# EAGLE library part SIMBRD42 (library matt con-amp)
AMP connector
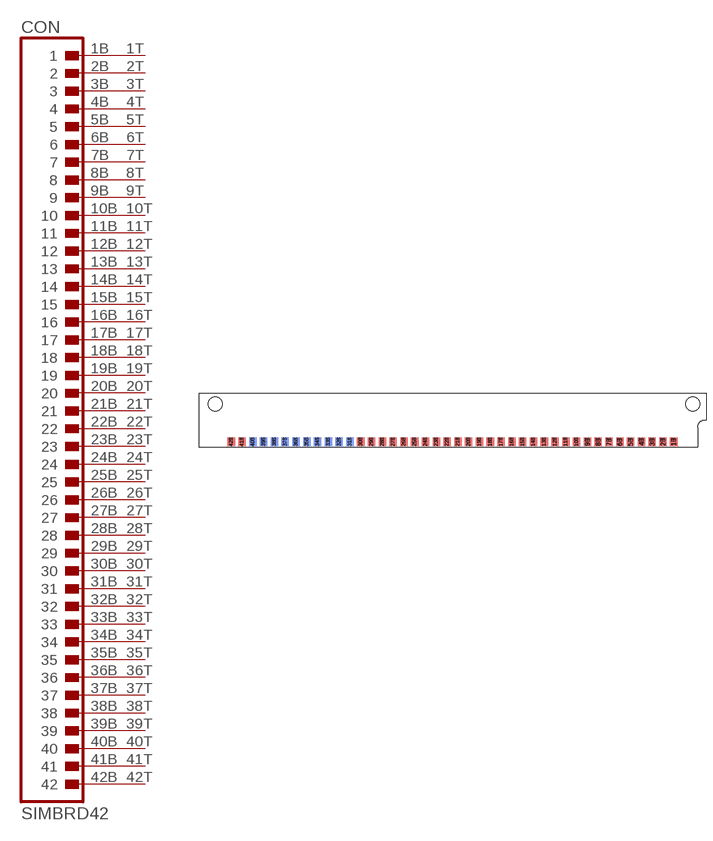
[diagram p3: symbol with the pads of SIMBRD42; footprint SIMBRD42]

Designator prefix CON

## SIMBRD42  [SIMBRD42]
1B  1  pas
1T  A1  pas
2B  2  pas
2T  A2  pas
3B  3  pas
3T  A3  pas
4B  4  pas
4T  A4  pas
5B  5  pas
5T  A5  pas
6B  6  pas
6T  A6  pas
7B  7  pas
7T  A7  pas
8B  8  pas
8T  A8  pas
9B  9  pas
9T  A9  pas
10B  10  pas
10T  A10  pas
11B  11  pas
11T  A11  pas
12B  12  pas
12T  A12  pas
13B  13  pas
13T  A13  pas
14B  14  pas
14T  A14  pas
15B  15  pas
15T  A15  pas
16B  16  pas
16T  A16  pas
17B  17  pas
17T  A17  pas
18B  18  pas
18T  A18  pas
19B  19  pas
19T  A19  pas
20B  20  pas
20T  A20  pas
21B  21  pas
21T  A21  pas
22B  22  pas
22T  A22  pas
23B  23  pas
23T  A23  pas
24B  24  pas
24T  A24  pas
25B  25  pas
25T  A25  pas
26B  26  pas
26T  A26  pas
27B  27  pas
27T  A27  pas
28B  28  pas
28T  A28  pas
29B  29  pas
29T  A29  pas
30B  30  pas
30T  A30  pas
31B  31  pas
31T  A31  pas
32B  32  pas
32T  A32  pas
33B  33  pas
33T  A33  pas
34B  34  pas
34T  A34  pas
35B  35  pas
35T  A35  pas
36B  36  pas
36T  A36  pas
37B  37  pas
37T  A37  pas
38B  38  pas
38T  A38  pas
39B  39  pas
39T  A39  pas
40B  40  pas
40T  A40  pas
41B  41  pas
41T  A41  pas
42B  42  pas
42T  A42  pas

## Footprint SIMBRD42 (pad centres in mm)
SIMM Modul
smd 1.778 x 2.032 bottom: 1B 53.34,-6.35; 2B 50.8,-6.35; 3B 48.26,-6.35; 4B 45.72,-6.35; 5B 43.18,-6.35; 6B 40.64,-6.35; 7B 38.1,-6.35; 8B 35.56,-6.35; 9B 33.02,-6.35; 10B 30.48,-6.35; 11B 27.94,-6.35; 12B 25.4,-6.35; 13B 22.86,-6.35; 14B 20.32,-6.35; 15B 17.78,-6.35; 16B 15.24,-6.35; 17B 12.7,-6.35; 18B 10.16,-6.35; 19B 7.62,-6.35; 20B 5.08,-6.35; 21B 2.54,-6.35; 22B 0,-6.35; 23B -2.54,-6.35; 24B -5.08,-6.35; 25B -7.62,-6.35; 26B -10.16,-6.35; 27B -12.7,-6.35; 28B -15.24,-6.35; 29B -17.78,-6.35; 30B -20.32,-6.35; 31B -22.86,-6.35; 32B -25.4,-6.35; 33B -27.94,-6.35; 34B -30.48,-6.35; 35B -33.02,-6.35; 36B -35.56,-6.35; 37B -38.1,-6.35; 38B -40.64,-6.35; 39B -43.18,-6.35; 40B -45.72,-6.35; 41B -48.26,-6.35; 42B -50.8,-6.35
smd 1.778 x 2.032: 1T 53.34,-6.35; 2T 50.8,-6.35; 3T 48.26,-6.35; 4T 45.72,-6.35; 5T 43.18,-6.35; 6T 40.64,-6.35; 7T 38.1,-6.35; 8T 35.56,-6.35; 9T 33.02,-6.35; 10T 30.48,-6.35; 11T 27.94,-6.35; 12T 25.4,-6.35; 13T 22.86,-6.35; 14T 20.32,-6.35; 15T 17.78,-6.35; 16T 15.24,-6.35; 17T 12.7,-6.35; 18T 10.16,-6.35; 19T 7.62,-6.35; 20T 5.08,-6.35; 21T 2.54,-6.35; 22T 0,-6.35; 23T -2.54,-6.35; 24T -5.08,-6.35; 25T -7.62,-6.35; 26T -10.16,-6.35; 27T -12.7,-6.35; 28T -15.24,-6.35; 29T -17.78,-6.35; 30T -20.32,-6.35; 31T -22.86,-6.35; 32T -25.4,-6.35; 33T -27.94,-6.35; 34T -30.48,-6.35; 35T -33.02,-6.35; 36T -35.56,-6.35; 37T -38.1,-6.35; 38T -40.64,-6.35; 39T -43.18,-6.35; 40T -45.72,-6.35; 41T -48.26,-6.35; 42T -50.8,-6.35
hole 3.302 at -54.61,2.54
hole 3.302 at 57.785,2.54